# EAGLE library part WALKERA_IMU (library custom_lib)
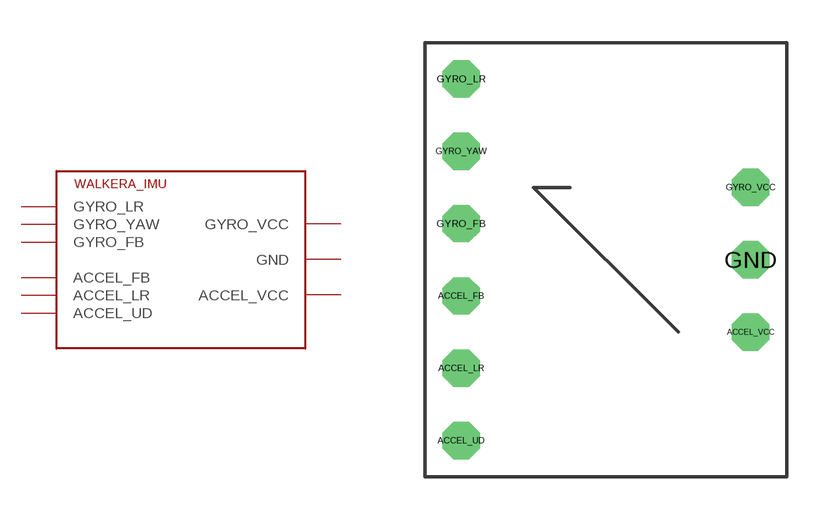
[diagram p5: symbol with the pads of WALKERA_IMU; footprint WALKERA_IMU]

Designator prefix -

## WALKERA_IMU  [WALKERA_IMU]
ACCEL_FB  ACCEL_FB  out
ACCEL_LR  ACCEL_LR  out
ACCEL_UD  ACCEL_UD  out
ACCEL_VCC  ACCEL_VCC  pwr
GND  GND  pwr
GYRO_FB  GYRO_FB  out
GYRO_LR  GYRO_LR  out
GYRO_VCC  GYRO_VCC  pwr
GYRO_YAW  GYRO_YAW  out

## Footprint WALKERA_IMU (pad centres in mm)
drill 0.8 octagon: ACCEL_FB 0,-2.54; ACCEL_LR 0,-5.08; ACCEL_UD 0,-7.62; ACCEL_VCC 10.16,-3.81; GND 10.16,-1.27; GYRO_FB 0,0; GYRO_LR 0,5.08; GYRO_VCC 10.16,1.27; GYRO_YAW 0,2.54